# EAGLE library part CHRONO_LED_8X1 (library chrono)
edit this description Auto generated by make-symbol-device-package-bsdl.ulp Rev. 44 Source:
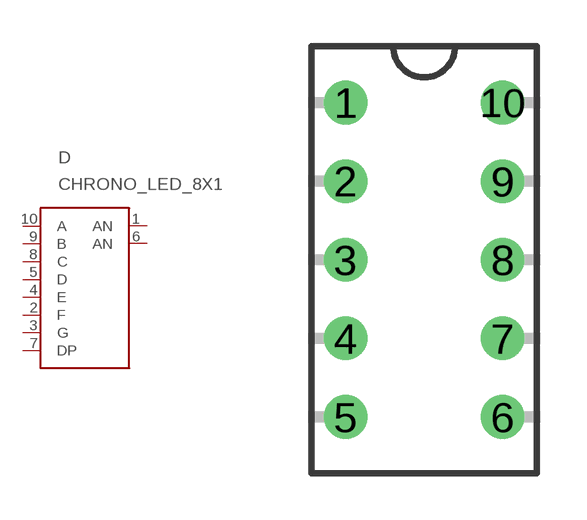
[diagram p6: symbol with the pads of CHRONO_LED_DIP10; footprint CHRONO_LED_DIP10]

Designator prefix D

## CHRONO_LED_8X1  [CHRONO_LED_DIP10]
1  AN
2  F
3  G
4  E
5  D
6  AN
7  DP
8  C
9  B
10  A

## Footprint CHRONO_LED_DIP10 (pad centres in mm)
LED_DIP10 Auto generated by make-symbol-device-package-bsdl.ulp Rev. 44
drill 0.9 pad 1.4: 1 -2.54,5.08; 2 -2.54,2.54; 3 -2.54,0; 4 -2.54,-2.54; 5 -2.54,-5.08; 6 2.54,-5.08; 7 2.54,-2.54; 8 2.54,0; 9 2.54,2.54; 10 2.54,5.08